# Altium schematic symbol library CON-10.SchLib: 1 symbol
Pins are listed as number, name and electrical type; pins without a type are passive.

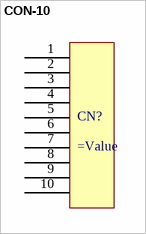
[diagram p0: symbol CON-10]

## CON-10
designator CN?
=Description
pins: 1, 2, 3, 4, 5, 6, 7, 8, 9, 10